# Altium schematic symbol library ARCOM_Special.SchLib: 51 symbols
Pins are listed as number, name and electrical type; pins without a type are passive.

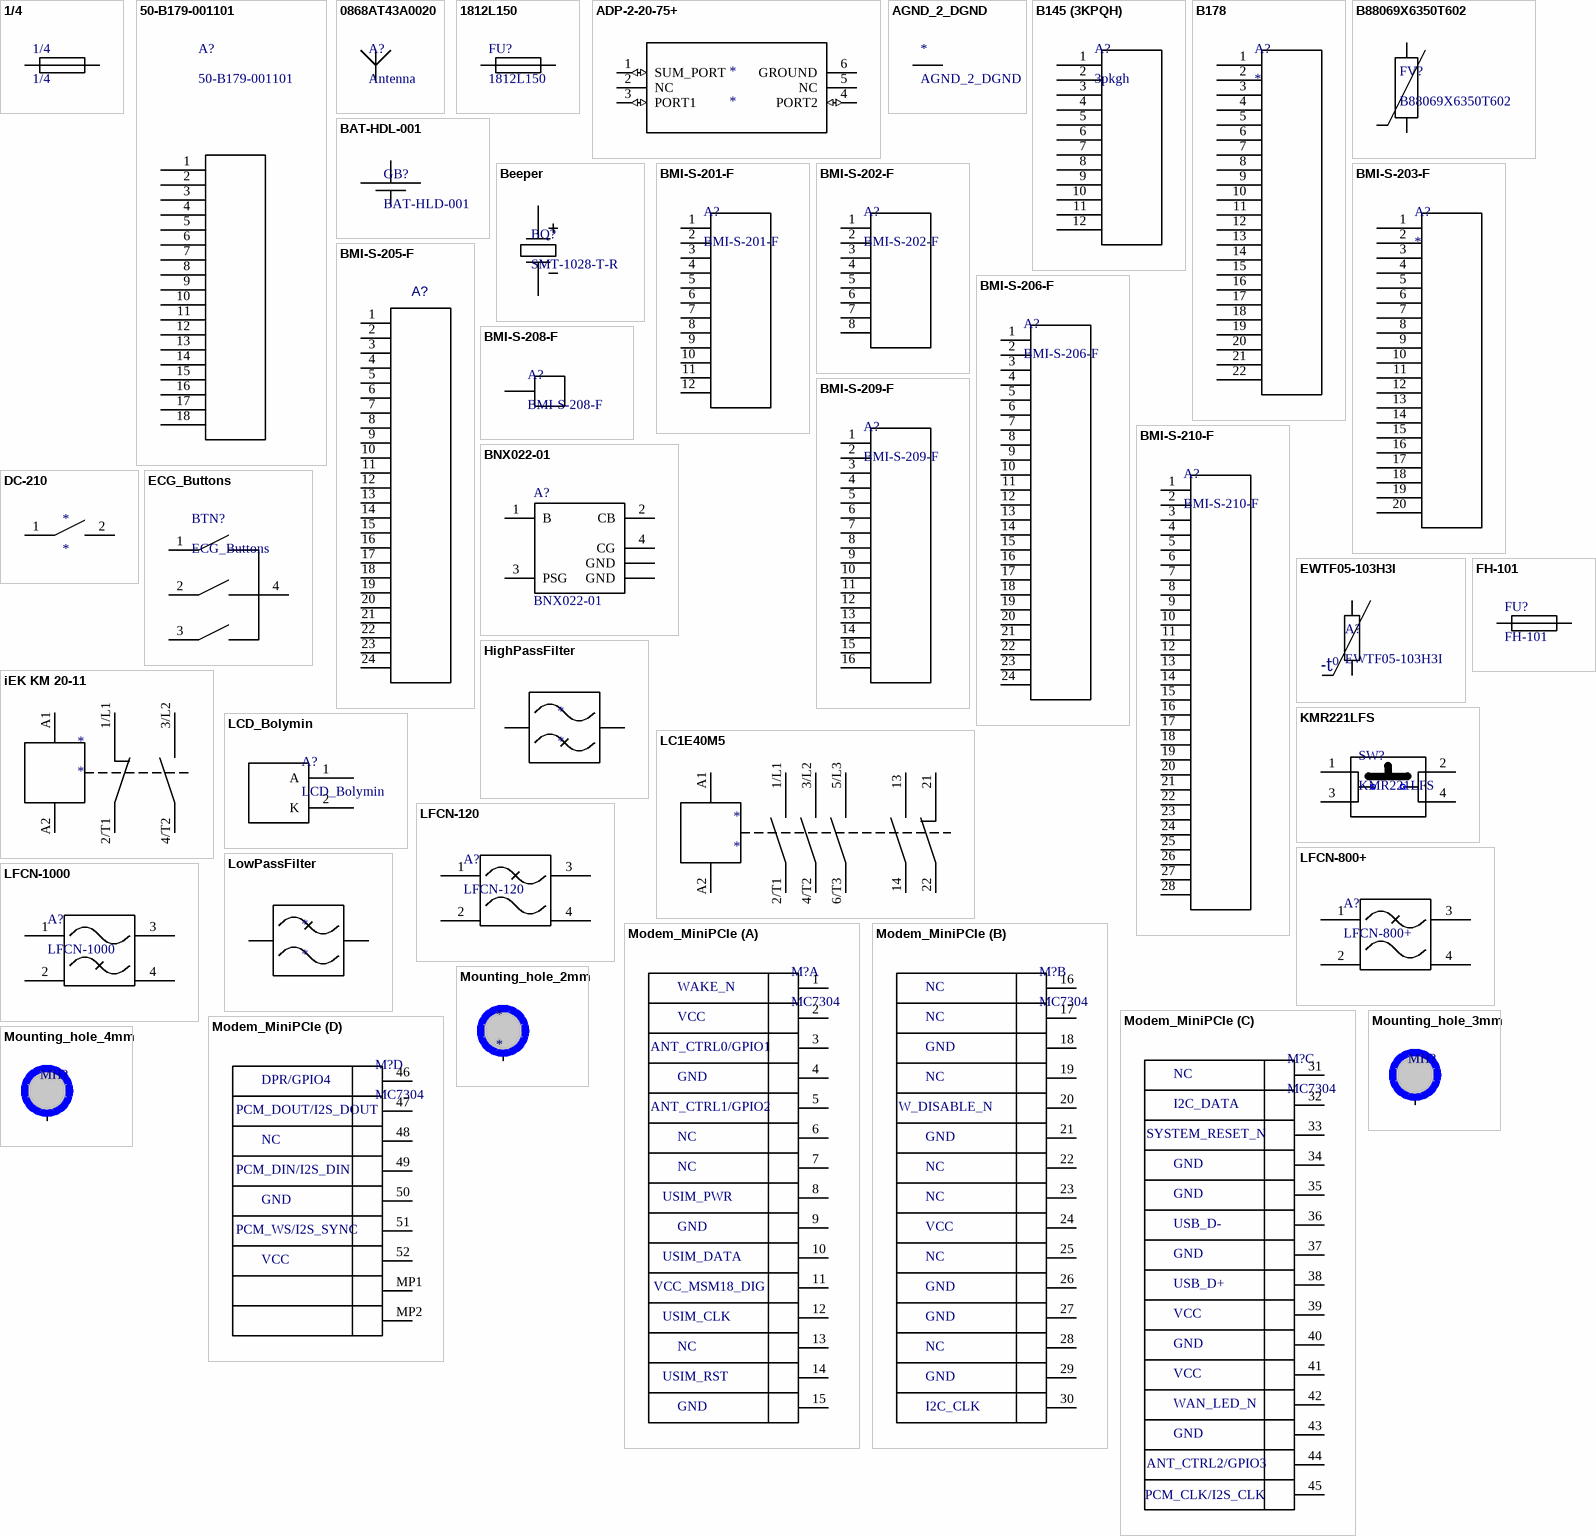
[diagram p0: symbols 1/4 to Mounting_hole_4mm]

## 1/4
designator 1/4  (net tie, no BOM)
footprint 1/4
pins: 1, 2

## 50-B179-001101
designator A?
Shielding Frame; Manufacturer: DongGuan Bosi Metal & Electronic Co., LTD; ComponentLink1Description: *; ComponentLink1URL: *; Manufacturer P/N: 50-B179-001101; Part: 50-B179-001101
footprint Shiled_50-B179-001101
pins: 1, 2, 3, 4, 5, 6, 7, 8, 9, 10, 11, 12, 13, 14, 15, 16, 17, 18

## 0868AT43A0020
designator A?, comment Antenna
Johanson Technology 0868AT43A0020
footprint 0868AT43A0020
pins: 1

## 1812L150
designator FU?
Surface Mount Resetable PTC 1812L Series; Manufacturer: Littlefuse, Inc.; Part: Fuse 1.1А; ComponentLink1Description: Manufacturer; ComponentLink2Description: Datasheet; Manufacturer P/N: 1812L150
footprint LF1812
pins: 1, 2

## ADP-2-20-75+
designator *
footprint CD542_MNC
pins: 1 SUM_PORT (io), 2 NC, 3 PORT1 (io), 4 PORT2 (io), 5 NC, 6 GROUND (power)

## AGND_2_DGND
designator *  (net tie, no BOM)
footprint agnd_2_dgnd
pins: 1, 2

## B145 (3KPQH)
designator A?, comment 3pkgh
Shielding Frame; Manufacturer: DongGuan Bosi Metal & Electronic Co. LTD; Manufacturer P/N: 3KPQH; ComponentLink1Description: Manufacturer; ComponentLink1URL: http://dgbosigd.ecol.xyz/; Part: 3KPQH
footprint SHIELD_B145
pins: 1, 2, 3, 4, 5, 6, 7, 8, 9, 10, 11, 12

## B178
designator A?
Shielding Frame
footprint SHIELD_B178
pins: 1, 2, 3, 4, 5, 6, 7, 8, 9, 10, 11, 12, 13, 14, 15, 16, 17, 18, 19, 20, 21, 22

## B88069X6350T602
designator FV?
Surge Arrester
footprint B88069X6350T602
pins: 1, 2

## BAT-HDL-001
designator GB?, comment BAT-HLD-001
Coin Cell Battery Holders Linx CR2032; Manufacturer: Linx Technologies; ComponentLink1URL: *; ComponentLink2Description: *; ComponentLink2URL: *; Family: Special; Manufacturer P/N: BAT-HLD-001; Part: BAT-HLD-001
footprint BAT-HLD-001
pins: 1, 2

## Beeper
designator BQ?, comment SMT-1028-T-R
Transducer; Manufacturer: PuiAudio; ComponentLink1Description: Manufacturer; ComponentLink1URL: http://www.puiaudio.com/; ComponentLink2Description: Datasheet; ComponentLink2URL: http://www.puiaudio.com/pdf/SMT-1028-T-R.pdf; Manufacturer P/N: SMT-1028-T-R; Part: SMT-1028-T-R
footprint Beeper
pins: MINUS 2, PLUS 1

## BMI-S-201-F
designator A?
Shielding Frame; Manufacturer: Laird Technologies; Compliant_Part: BMI-S-201-C; ComponentLink1Description: *; ComponentLink1URL: *; ComponentLink2Description: *; ComponentLink2URL: *; Family: Special; Manufacturer P/N: BMI-S-201-F; Part: BMI-S-201-F
footprint BMI-S-201-F
pins: 1, 2, 3, 4, 5, 6, 7, 8, 9, 10, 11, 12

## BMI-S-202-F
designator A?
Shielding Frame; Compliant_Part: BMI-S-202-C; Manufacturer: Laird Technologies; ComponentLink1Description: *; ComponentLink1URL: *; ComponentLink2Description: *; ComponentLink2URL: *; Family: Special; Manufacturer P/N: BMI-S-202-F; Part: BMI-S-202-F
footprint BMI-S-202-F
pins: 1, 2, 3, 4, 5, 6, 7, 8

## BMI-S-203-F
designator A?
Shielding Frame; Compliant_Part: BMI-S-203-C; Manufacturer: Laird Technologies; Manufacturer P/N: BMI-S-203-F; ComponentLink1Description: *; ComponentLink1URL: *; ComponentLink2Description: *; ComponentLink2URL: *; Family: Special; Part: BMI-S-203-F
footprint SHIELD_BMS-203F
pins: 1, 2, 3, 4, 5, 6, 7, 8, 9, 10, 11, 12, 13, 14, 15, 16, 17, 18, 19, 20

## BMI-S-205-F
designator A?  (value not drawn)
Shielding Frame BMI-S-205-F; Part: Shield; Value: *; Manufacturer P/N: BMI-S-205-F
footprint BMI-S-205-F
pins: 1, 2, 3, 4, 5, 6, 7, 8, 9, 10, 11, 12, 13, 14, 15, 16, 17, 18, 19, 20, 21, 22, 23, 24

## BMI-S-206-F
designator A?
Shielding Frame; Compliant_Part: BMI-S-206-C; Manufacturer: Laird Technologies; ComponentLink1Description: *; ComponentLink1URL: *; ComponentLink2Description: *; ComponentLink2URL: *; Family: Special; Manufacturer P/N: BMI-S-206-F; Part: BMI-S-206-F
footprint BMI-S-206-F
pins: 1, 2, 3, 4, 5, 6, 7, 8, 9, 10, 11, 12, 13, 14, 15, 16, 17 17`, 18, 19, 20, 21, 22, 23, 24

## BMI-S-208-F
designator A?
Shielding Frame; Compliant_Part: BMI-S-208-C; Manufacturer: Laird Technologies; ComponentLink1Description: *; ComponentLink1URL: *; ComponentLink2Description: *; ComponentLink2URL: *; Family: Special; Manufacturer P/N: BMI-S-208-F; Part: BMI-S-208-F
footprint BMI-S-208-F
pins: 1

## BMI-S-209-F
designator A?
Shielding Frame; Compliant_Part: BMI-S-209-C; Manufacturer: Laird Technologies; ComponentLink1Description: *; ComponentLink1URL: *; ComponentLink2Description: *; ComponentLink2URL: *; Family: Special; Manufacturer P/N: BMI-S-209-F; Part: BMI-S-209-F
footprint BMI-S-209-F
pins: 1, 2, 3, 4, 5, 6, 7, 8, 9, 10, 11, 12, 13, 14, 15, 16

## BMI-S-210-F
designator A?
Shielding Frame; Compliant_Part: BMI-S-210-C; Manufacturer: Laird Technologies; ComponentLink1Description: *; ComponentLink1URL: *; ComponentLink2Description: *; ComponentLink2URL: *; Family: Special; Manufacturer P/N: BMI-S-210-F; Part: BMI-S-210-F
footprint BMI-S-210-F
pins: 1, 2, 3, 4, 5, 6, 7, 8, 9, 10, 11, 12, 13, 14, 15, 16, 17 17`, 18, 19, 20, 21, 22, 23, 24, 25, 26, 27, 28

## BNX022-01
designator A?
EMI Filter Circuits; Manufacturer: Murata; ComponentLink1Description: *; ComponentLink1URL: *; ComponentLink2Description: *; ComponentLink2URL: *; Family: *; Manufacturer P/N: BNX022-01; Part: BNX022-01
footprint Murata_BNX
footprint MURATA_BNX_2
pins: 1 B, 2 CB, 3 PSG, 4 CG, 4 GND, 4 GND

## DC-210
designator *
footprint DC-210 (Push-button)
pins: 1, 2

## ECG_Buttons
designator BTN?
footprint ECG_BUTTONS
pins: 1, 2, 3, 4

## EWTF05-103H3I
designator A?
NTC Thermistor; Manufacturer: E Way Technology Co., LTD.; ComponentLink1Description: Manufacturer; ComponentLink1URL: http://en.ewaytech.com.tw/; ComponentLink2Description: Datasheet; ComponentLink2URL: https://www.smd.ru/upload/medialibrary/7f3/ewtf05_103h3i.pdf; Manufacturer P/N: EWTF05-103H3I; Part: EWTF05-103H3I
footprint RESC0805(2012)_N (Chip Resistor, Body 2.0x1.3mm, IPC Medium Density)
footprint RESC0805(2012)_L (Chip Resistor, Body 2.0x1.3mm, IPC High Density)
footprint RESC0805(2012)_M (Chip Resistor, Body 2.0x1.3mm, IPC Low Density)
pins: 1, 2
text: -t⁰

## FH-101
designator FU?
Fuse holder; Manufacturer: Dragon City Industries; ComponentLink1Description: Manufacturer; ComponentLink2Description: Datasheet
footprint FH-101
pins: 1, 2

## HighPassFilter
designator *
pins: 1, 2

## iEK KM 20-11
designator *
pins: 1/L1, 2/T1, 3/L2, 4/T2, A1, A2

## KMR221LFS
designator SW?
Microminiature SMT Top Actuated; Manufacturer: C&K Switches; ComponentLink1Description: Datasheet; ComponentLink1URL: https://www.ckswitches.com/media/1479/kmr2.pdf; ComponentLink2Description: Manufacturer; ComponentLink2URL: https://www.ckswitches.com; Manufacturer p/n: KMR221LFS; Family: Buttons; Part: KMR221LFS
footprint KMR221LFS
pins: 1, 2, 3, 4

## LC1E40M5
designator *
pins: 1/L1, 2/T1, 3/L2, 4/T2, 5/L3, 6/T3, 13, 14, 21, 22, A1, A2

## LCD_Bolymin
designator A?
pins: 1 A, 2 K

## LFCN-120
designator A?
LFCN-120 LTCC Low Pass Filter DC-120MHz; Manufacturer: Mini-Circuits; ComponentLink1Description: Manufacturer; ComponentLink1URL: http://www.mini-circuits.com; ComponentLink2Description: Datasheet; Manufacturer P/N: LFCN-120; Part: LFCN-120
footprint LFCN-1000
pins: 1 In, 2 GND, 3 Out, 4 GND

## LFCN-800+
designator A?
LFCN-800 LTCC Low Pass Filter DC-800MHz; Manufacturer: Mini-Circuits; ComponentLink1Description: Manufacturer; ComponentLink1URL: http://www.mini-circuits.com; ComponentLink2Description: Datasheet; Manufacturer P/N: LFCN-800+; Part: LFCN-800+
footprint LFCN-1000
pins: 1 In, 2 GND, 3 Out, 4 GND

## LFCN-1000
designator A?
LFCN-1000D+; Manufacturer: Mini-Circuits; ComponentLink1Description: Manufacturer; ComponentLink1URL: http://www.mini-circuits.com; ComponentLink2Description: Datasheet; ComponentLink2URL: http://194.75.38.69/pdfs/LFCN-1000.pdf; Manufacturer P/N: LFCN-1000D+; Part: LFCN-1000D+
footprint LFCN-1000
pins: 1 In, 2 GND, 3 Out, 4 GND

## LowPassFilter
designator *
pins: 1, 2

## Modem_MiniPCIe
designator M?, comment MC7304
footprint miniPCI_Ex
part A pins: 1 WAKE_N, 2 VCC, 3 ANT_CTRL0/GPIO1, 4 GND, 5 ANT_CTRL1/GPIO2, 6 NC, 7 NC, 8 USIM_PWR, 9 GND, 10 USIM_DATA, 11 VCC_MSM18_DIG, 12 USIM_CLK, 13 NC, 14 USIM_RST, 15 GND
part B pins: 16 NC, 17 NC, 18 GND, 19 NC, 20 W_DISABLE_N, 21 GND, 22 NC, 23 NC, 24 VCC, 25 NC, 26 GND, 27 GND, 28 NC, 29 GND, 30 I2C_CLK
part C pins: 31 NC, 32 I2C_DATA, 33 SYSTEM_RESET_N, 34 GND, 35 GND, 36 USB_D-, 37 GND, 38 USB_D+, 39 VCC, 40 GND, 41 VCC, 42 WAN_LED_N, 43 GND, 44 ANT_CTRL2/GPIO3, 45 PCM_CLK/I2S_CLK
part D pins: 46 DPR/GPIO4, 47 PCM_DOUT/I2S_DOUT, 48 NC, 49 PCM_DIN/I2S_DIN, 50 GND, 51 PCM_WS/I2S_SYNC, 52 VCC, MP1, MP2

## Mounting_hole_2mm
designator *
footprint Mount_2mm
pins: 1

## Mounting_hole_3mm
designator MH?  (value not drawn)
footprint Mount_3mm
pins: 1

## Mounting_hole_4mm
designator MH?  (value not drawn)  (no BOM)
footprint MOUNT_4MM
pins: 1

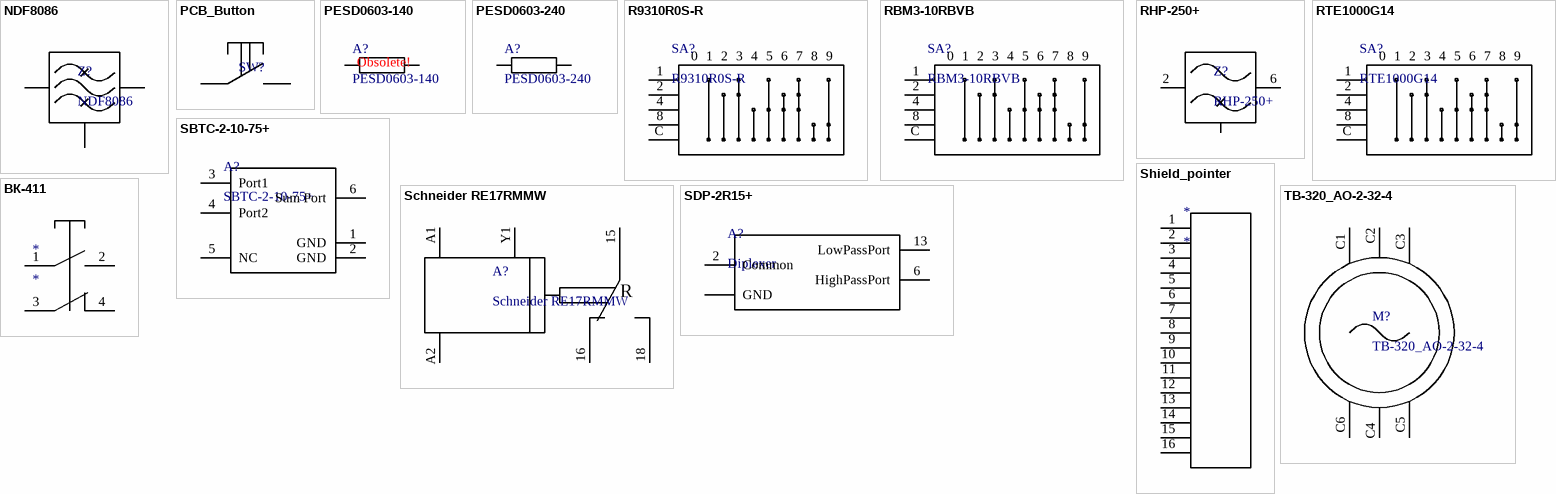
[diagram p1: symbols NDF8086 to ТВ-320_АО-2-32-4]

## NDF8086
designator Z?
ComponentLink1Description: *; ComponentLink1URL: *; ComponentLink2Description: *; ComponentLink2URL: *; Manufacturer: *; Manufacturer P/N: *; Family: *; Part: *
footprint DCC6C
pins: 1 GND, 2 In, 3 GND, 4 GND, 5 Out, 6 GND

## PCB_Button
designator SW?  (value not drawn)
footprint PCB_Button
pins: 1, 2

## PESD0603-140
designator A?
ESD Protection Device; Manufacturer: TE CONNECTIVITY / RAYCHEM; ComponentLink1Description: Manufacturer; ComponentLink1URL: http://www.te.com; ComponentLink2Description: Datasheet; ComponentLink2URL: http://www.farnell.com/datasheets/1651024.pdf; Manufacturer P/N: PESD0603-140; Part: PESD0603-140
footprint RESC0603(1608)_N (Chip Resistor, Body 1.6x0.8mm, IPC Medium Density)
pins: 1, 2
text: Obsolete!

## PESD0603-240
designator A?
ESD Protection Device; Manufacturer: TE CONNECTIVITY / RAYCHEM; ComponentLink1Description: Manufacturer; ComponentLink1URL: http://www.te.com; ComponentLink2Description: Datasheet; ComponentLink2URL: http://www.farnell.com/datasheets/1651024.pdf; Manufacturer P/N: PESD0603-240; Part: PESD0603-240
footprint RESC0603(1608)_N (Chip Resistor, Body 1.6x0.8mm, IPC Medium Density)
pins: 1, 2

## R9310R0S-R
designator SA?
Rotary Switch; Manufacturer: Multicomp; Manufacturer P/N: Eker; ComponentLink1Description: Manufacturer; ComponentLink1URL: *; ComponentLink2Description: Datasheet; ComponentLink2URL: http://www.ekerele.com/uploadfile/Products/DS/R93-S.pdf; Family: *; Part: R9310R0S-R
footprint R93series
pins: 1, 2, 4, 8, C
text: 0; 3; 5; 6; 7; 9

## RBM3-10RBVB
designator SA?
Rotary Switch; Manufacturer: Multicomp; ComponentLink1Description: Manufacturer; ComponentLink1URL: *; ComponentLink2Description: Datasheet; ComponentLink2URL: http://www.farnell.com/datasheets/2148660.pdf?_ga=1.162534975.2010808544.1469522567; Family: *; Manufacturer P/N: *; Part: *
pins: 1, 2, 4, 8, C
text: 0; 3; 5; 6; 7; 9

## RHP-250+
designator Z?
High Pass Filter 400 to 3000 MHz, 50 Ohm; ComponentLink1Description: *; ComponentLink1URL: *; ComponentLink2Description: *; ComponentLink2URL: *; Manufacturer: *; Manufacturer P/N: *; Part: *; Family: *
footprint RHP_filter
pins: 1, 2, 3, 4, 5, 6, 7, 8

## RTE1000G14
designator SA?
Rotary Switch; ComponentLink1Description: Manufacturer; ComponentLink1URL: *; ComponentLink2Description: Datasheet; Family: *; Part: RTE1000G14
footprint RTE1000G14
pins: 1, 2, 4, 8, C
text: 0; 3; 5; 6; 7; 9

## SBTC-2-10-75+
designator A?
Power Splitter/Combiners; Manufacturer: Mini-Circuits; ComponentLink1Description: Manufacturer; ComponentLink1URL: https://www.minicircuits.com/; ComponentLink2Description: Datasheet; ComponentLink2URL: https://www.minicircuits.com/WebStore/dashboard.html?model=SBTC-2-10-75%2B; Manufacturer P/N: SBTC-2-10-75+; Family: *; Part: SBTC-2-10-75+
footprint SBTC-2-10-75
pins: 1 GND, 2 GND, 3 Port1, 4 Port2, 5 NC, 6 Sum Port

## Schneider RE17RMMW
designator A?
pins: 15, 16, 18, A1, A2, Y1
text: R

## SDP-2R15+
designator A?, comment Diplexer
Lumped LC Diplexer; Manufacturer: Mini-Circuits, Inc.; Manufacturer p/n: SDP-2R15+; ComponentLink1Description: Manufacturer; ComponentLink1URL: https://www.minicircuits.com/; ComponentLink2Description: Datasheet; ComponentLink2URL: https://www.minicircuits.com/WebStore/dashboard.html?model=SDP-2R15%2B; Family: Special; Part: SDP-2R15+
footprint HU1186
pins: 1 GND, 2 Common, 3 GND, 4 GND, 5 GND, 6 HighPassPort, 7 GND, 8 GND, 9 GND, 10 GND, 11 GND, 12 GND, 13 LowPassPort, 14 GND

## Shield_pointer
designator *
footprint Shield_Pointer
pins: 1, 2, 3, 4, 5, 6, 7, 8, 9, 10, 11, 12, 13, 14, 15, 16

## ВК-411
designator *
pins: 1, 2, 3, 4

## ТВ-320_АО-2-32-4
designator M?
pins: C1, C2, C3, C4, C5, C6